# EAGLE library part 43045-22 (library con-molex-micro-fit)
HEADER
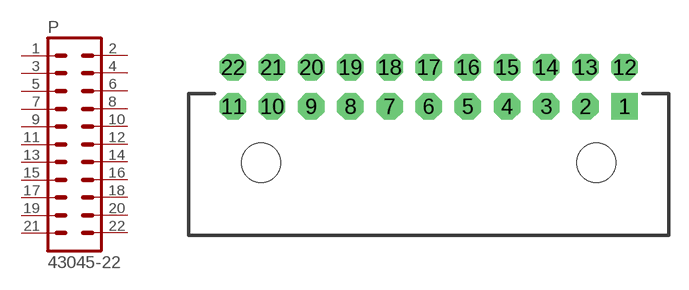
[diagram p8: symbol with the pads of 43045-22; footprint 43045-22]

Designator prefix P

## 43045-22  [43045-22]
1  1  pas
2  2  pas
3  3  pas
4  4  pas
5  5  pas
6  6  pas
7  7  pas
8  8  pas
9  9  pas
10  10  pas
11  11  pas
12  12  pas
13  13  pas
14  14  pas
15  15  pas
16  16  pas
17  17  pas
18  18  pas
19  19  pas
20  20  pas
21  21  pas
22  22  pas

## Footprint 43045-22 (pad centres in mm)
HEADER
drill 1.016 pad 2.032 square: 1 15,0
drill 1.016 pad 2.032 octagon: 2 12,0; 3 9,0; 4 6,0; 5 3,0; 6 0,0; 7 -3,0; 8 -6,0; 9 -9,0; 10 -12,0; 11 -15,0; 12 15,3; 13 12,3; 14 9,3; 15 6,3; 16 3,3; 17 0,3; 18 -3,3; 19 -6,3; 20 -9,3; 21 -12,3; 22 -15,3
hole 3 at -12.85,-4.32
hole 3 at 12.85,-4.32